# Altium schematic symbol library LOGO.SCHLIB: 7 symbols
Pins are listed as number, name and electrical type; pins without a type are passive.

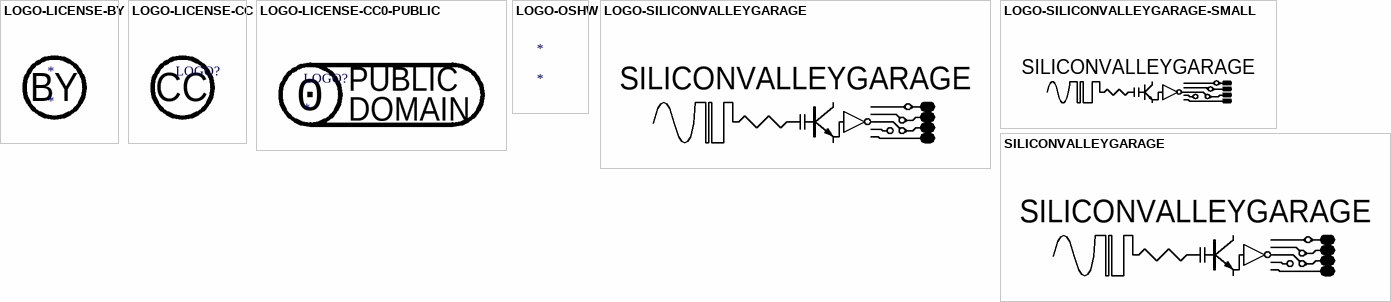
[diagram p0: symbols LOGO-LICENSE-BY to SILICONVALLEYGARAGE]

## LOGO-LICENSE-BY
designator *  (no BOM)
footprint LOGO-LICENSE-BY
text: BY

## LOGO-LICENSE-CC
designator LOGO?  (value not drawn)  (no BOM)
footprint LOGO-LICENSE-CC
text: CC

## LOGO-LICENSE-CC0-PUBLIC
designator LOGO?  (no BOM)
footprint LOGO-LICENSE-CC0-PUBLIC
text: PUBLIC; 0; DOMAIN

## LOGO-OSHW
designator *

## LOGO-SILICONVALLEYGARAGE
designator LOGO?  (value not drawn)
footprint SILICONVALLEYGARAGE
text: SILICONVALLEYGARAGE

## LOGO-SILICONVALLEYGARAGE-SMALL
designator LOGO?  (value not drawn)  (graphical)
LOGO,SILICONVALLEYGARAGE,SMALL
footprint SILICONVALLEYGARAGE
text: SILICONVALLEYGARAGE

## SILICONVALLEYGARAGE
designator LOGO?  (value not drawn)
footprint SILICONVALLEYGARAGE